# Altium schematic symbol library RT9164A-33G.SchLib: 1 symbol
Pins are listed as number, name and electrical type; pins without a type are passive.

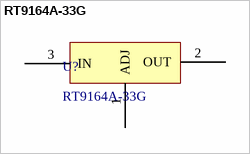
[diagram p0: symbol RT9164A-33G]

## RT9164A-33G
designator U?
PW REG
footprint RT9164A-33GG (SOT230P700X180-4N, SOT223, 4-Leads, Body 6.50x7.00mm (avg), Pitch 2.30mm, IPC Medium Density)
pins: 1 ADJ, 2 OUT, 3 IN